# EAGLE library part DIP_SWITCH_6 (library everykey)
6-pin DIP switch, e.g. CTS 219-6MST
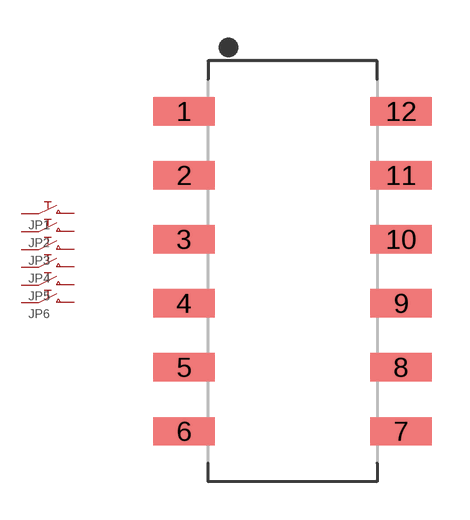
[diagram p60: symbol with the pads of CTS_219_6; footprint CTS_219_6]

Designator prefix JP; gates 1=TACTILE-SWITCH-MOMENTARY-CLOSE 2=TACTILE-SWITCH-MOMENTARY-CLOSE 3=TACTILE-SWITCH-MOMENTARY-CLOSE 4=TACTILE-SWITCH-MOMENTARY-CLOSE 5=TACTILE-SWITCH-MOMENTARY-CLOSE 6=TACTILE-SWITCH-MOMENTARY-CLOSE

## DIP_SWITCH_6CTS_219_6  [CTS_219_6]
1  1:1
2  2:1
3  3:1
4  4:1
5  5:1
6  6:1
7  6:2
8  5:2
9  4:2
10  3:2
11  2:2
12  1:2

## Footprint CTS_219_6 (pad centres in mm)
Footprint of CTS 219-6MST 6-position DIP switch, gull wing variant.
smd 2.438 x 1.118: 1 -4.305,6.35; 2 -4.305,3.81; 3 -4.305,1.27; 4 -4.305,-1.27; 5 -4.305,-3.81; 6 -4.305,-6.35; 7 4.305,-6.35; 8 4.305,-3.81; 9 4.305,-1.27; 10 4.305,1.27; 11 4.305,3.81; 12 4.305,6.35